# Altium footprint library DcsLib.PcbLib: 31 footprints (part 2 of 2)
Each footprint in its own frame and in the unit in brackets; x right, y up, seen from the top. Pads: shape width x height; smd on the part's side, far side on the other; paste and mask are expansions set on the pad; w line width, h text height; cw(c..) or ccw(c..) is an arc to the next point about the centre after c.
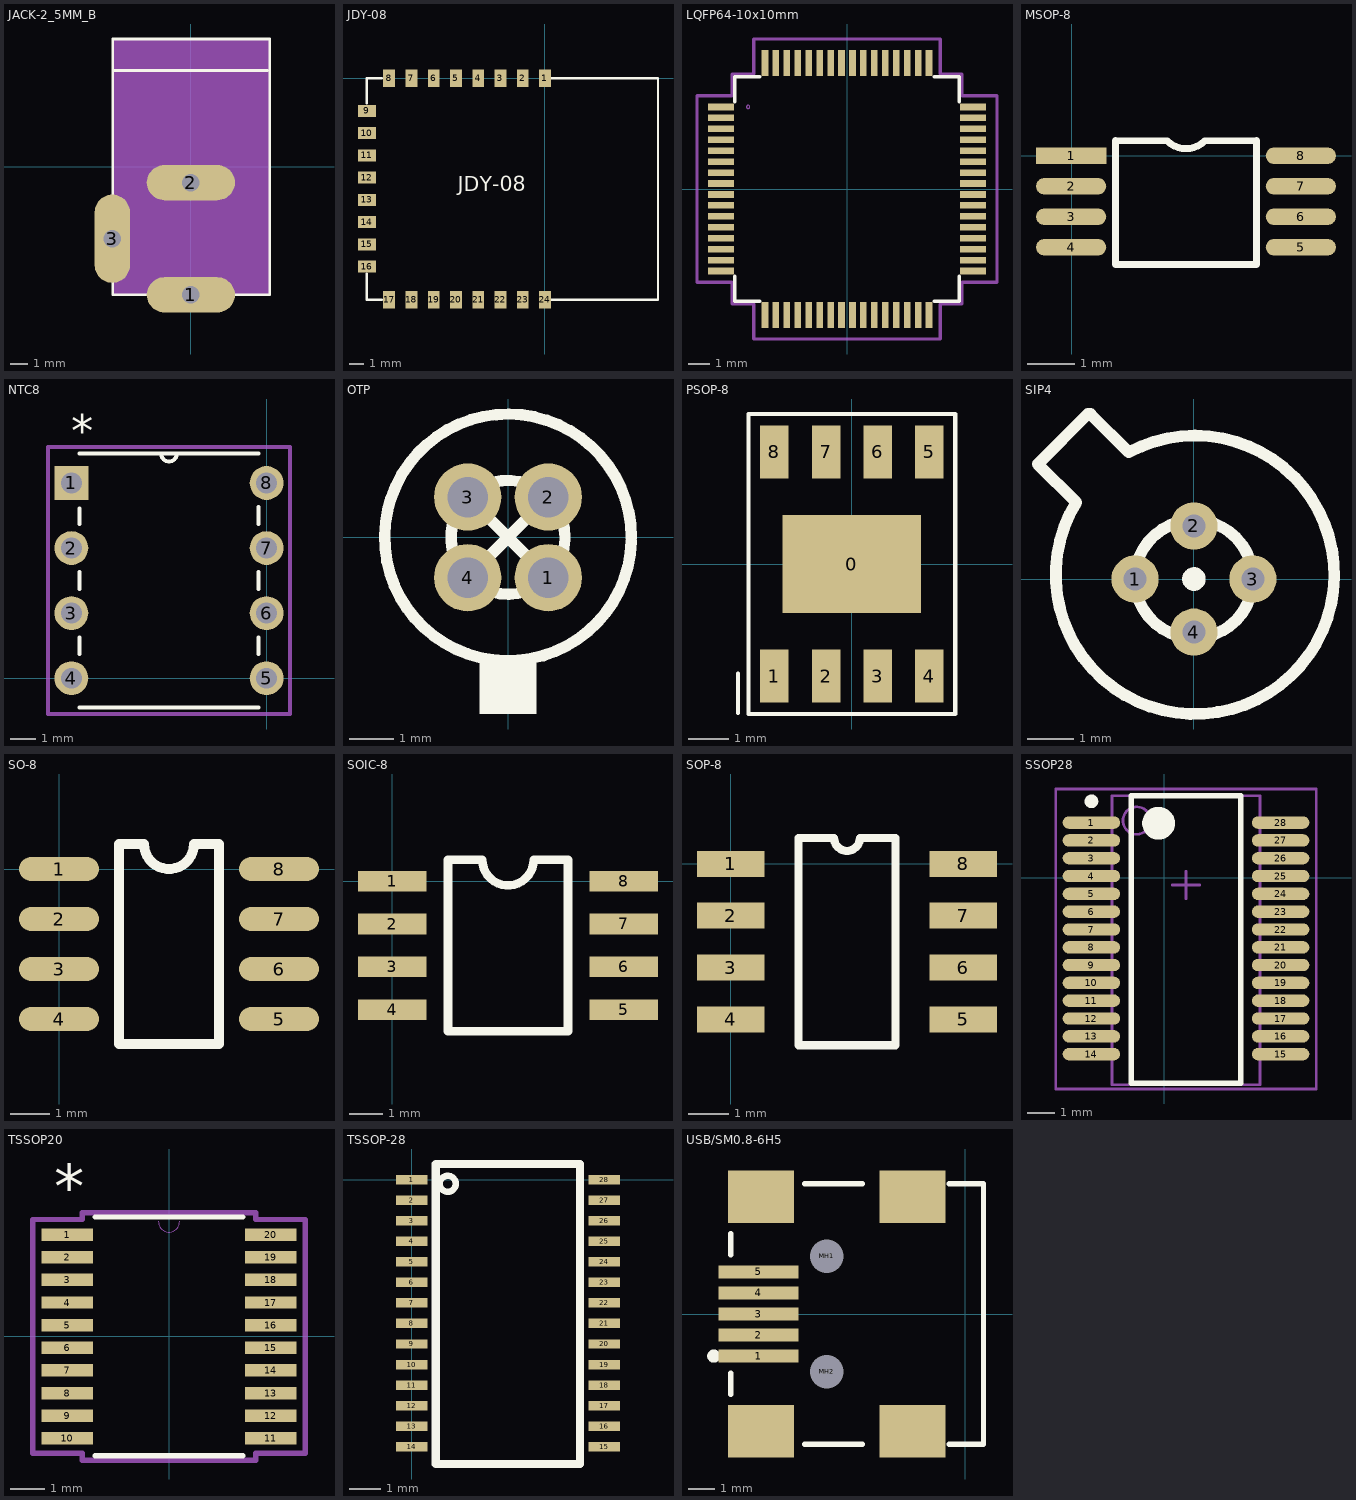
[diagram p1: the footprints below, top view; thin cyan lines are the x and y axes]

## JACK-2_5MM_B [mm] "JACK-2_5MM_B"
pads (3):
  oval 5x2 / inner round 1.524 / far side oval 5x2 hole 1: 1(0,-7.239) 2(0,-0.889)
  oval 2x5 / inner round 1.524 / far side oval 2x5 hole 1: 3(-4.445,-4.064)
Top Overlay:
  lines w0.152: -4.318,5.461 4.318,5.461 ; -4.42,-7.239 4.47,-7.239 4.47,7.239 -4.42,7.239 -4.42,-7.239
Mechanical 9:
  text "2" at -0.254,-0.889 h0.64
  text "3" at -4.699,-4.064 h0.64
  text "1" at -0.254,-7.239 h0.64
Mechanical 10:
  region: -4.445,0.254 -4.445,-7.239 2.54,-7.239 4.445,-7.239 4.445,7.239 -4.445,7.239

## JDY-08 [mm]
pads (24):
  rect 0.8x1.2 smd: 1(0,0) 2(-1.5,0) 3(-3,0) 4(-4.5,0) 5(-6,0) 6(-7.5,0) 7(-9,0) 8(-10.5,0) 17(-10.5,-14.935) 18(-9,-14.935) 19(-7.5,-14.935) 20(-6,-14.935) 21(-4.5,-14.935) 22(-3,-14.935) 23(-1.5,-14.935) 24(0,-14.935)
  rect 1.2x0.8 smd: 9(-12,-2.202) 10(-12,-3.702) 11(-12,-5.202) 12(-12,-6.702) 13(-12,-8.202) 14(-12,-9.702) 15(-12,-11.202) 16(-12,-12.702)
Top Overlay:
  lines w0.16: -12,-13.176 -12,-14.935 -10.984,-14.935 ; -12,-1.702 -12,0 -10.984,0 ; 0.465,-14.935 1.188,-14.935 7.615,-14.935 7.615,-1.905 7.615,0 2.56,0 0.465,0
  text "JDY-08" at -5.869,-7.604 h1

## LQFP64-10x10mm [mil]
pads (64):
  rect 47x12 smd: 1(-226.38,147.64) 2(-226.38,127.95) 3(-226.38,108.27) 4(-226.38,88.58) 5(-226.38,68.9) 6(-226.38,49.21) 7(-226.38,29.53) 8(-226.38,9.84) 9(-226.38,-9.84) 10(-226.38,-29.53) 11(-226.38,-49.21) 12(-226.38,-68.9) 13(-226.38,-88.58) 14(-226.38,-108.27) 15(-226.38,-127.95) 16(-226.38,-147.64) 33(226.38,-147.64) 34(226.38,-127.95) 35(226.38,-108.27) 36(226.38,-88.58) 37(226.38,-68.9) 38(226.38,-49.21) 39(226.38,-29.53) 40(226.38,-9.84) 41(226.38,9.84) 42(226.38,29.53) 43(226.38,49.21) 44(226.38,68.9) 45(226.38,88.58) 46(226.38,108.27) 47(226.38,127.95) 48(226.38,147.64)
  rect 12x47 smd: 17(-147.64,-226.38) 18(-127.95,-226.38) 19(-108.27,-226.38) 20(-88.58,-226.38) 21(-68.9,-226.38) 22(-49.21,-226.38) 23(-29.53,-226.38) 24(-9.84,-226.38) 25(9.84,-226.38) 26(29.53,-226.38) 27(49.21,-226.38) 28(68.9,-226.38) 29(88.58,-226.38) 30(108.27,-226.38) 31(127.95,-226.38) 32(147.64,-226.38) 49(147.64,226.38) 50(127.95,226.38) 51(108.27,226.38) 52(88.58,226.38) 53(68.9,226.38) 54(49.21,226.38) 55(29.53,226.38) 56(9.84,226.38) 57(-9.84,226.38) 58(-29.53,226.38) 59(-49.21,226.38) 60(-68.9,226.38) 61(-88.58,226.38) 62(-108.27,226.38) 63(-127.95,226.38) 64(-147.64,226.38)
Top Overlay:
  lines w6: -202,-156.51 -202,-202 -156.51,-202 ; -202,156.51 -202,202 -156.51,202 ; 156.51,-202 202,-202 202,-156.51 ; 156.51,202 202,202 202,156.51
Mechanical 13:
  circle w0: c-177.88,147.64 r3
Mechanical 15:
  lines w6: -269.88,-167.64 -207,-167.64 -207,-207 -167.64,-207 -167.64,-269.88 167.64,-269.88 167.64,-207 207,-207 207,-167.64 269.88,-167.64 269.88,167.64 207,167.64 207,207 167.64,207 167.64,269.88 -167.64,269.88 -167.64,207 -207,207 -207,167.64 -269.88,167.64 -269.88,-167.64
3D body "LQFP64-10x10mm.stp": height 63.1, standoff 0, extent -236.1,-236.1 236.1,236.1

## MSOP-8 [mm]
pads (8):
  rect 1.5x0.35 smd: 1(-0.01,0)
  oval 1.5x0.35 smd: 2(-0.01,-0.65) 3(-0.01,-1.3) 4(-0.01,-1.95) 5(4.89,-1.95) 6(4.89,-1.3) 7(4.89,-0.65) 8(4.89,0)
Top Overlay:
  lines w0.15: 0.94,0.32 0.94,-2.32 3.94,-2.32 3.94,0.322 2.84,0.32 ; 0.94,0.322 2.03,0.32 ; 2.04,0.318 ccw(c2.44,0.717) 2.84,0.318

## NTC8 [mil]
pads (8):
  rect 52x52 / inner round 60 / far side rect 52x52 hole 32: 1(-300,300)
  round 52 / inner round 60 / far side round 52 hole 32: 2(-300,200) 3(-300,100) 4(-300,0) 5(0,0) 6(0,100) 7(0,200) 8(0,300)
Top Overlay:
  lines w6: -287.5,-45 -12.5,-45 ; -287.5,37.05 -287.5,62.95 ; -287.5,137.05 -287.5,162.95 ; -287.5,237.05 -287.5,260.9 ; -287.5,345 -12.5,345 ; -162,345 ccw(c-150,345) -138,345 ; -12.5,37.05 -12.5,62.95 ; -12.5,137.05 -12.5,162.95 ; -12.5,237.05 -12.5,262.95
  text "*" at -300,356 h50
Mechanical 13:
  lines w0: -162,345 ccw(c-150,345) -138,345
  text "*" at -300,356 h50
Mechanical 15:
  lines w6: -336,-55 36,-55 36,355 -336,355 -336,-55
3D body "NTC8.stp": height 265.1, standoff 0, extent -315,-45 5,345

## OTP [mm]
pads (4):
  round 1.5 hole 0.9: 1(0.898,-0.898) 2(0.898,0.898) 3(-0.898,0.898) 4(-0.898,-0.898)
Top Overlay:
  rectangle: -0.635,-3.937 0.635,-2.667
  lines w0.254: -0.898,-0.898 0.898,0.898 ; -0.898,0.898 0.898,-0.898 ; 1.269,-0.038 cw(c0,0) 1.27,0 ; 2.749,-0.083 cw(c0,0) 2.75,0

## PSOP-8 [mm]
pads (9):
  rect 3.4x2.4 smd: 0(0,0)
  rect 0.7x1.3 smd: 1(-1.905,-2.75) 2(-0.635,-2.75) 3(0.635,-2.75) 4(1.905,-2.75) 5(1.905,2.75) 6(0.635,2.75) 7(-0.635,2.75) 8(-1.905,2.75)
Top Overlay:
  lines w0.102: -2.794,-3.658 -2.794,-2.692 ; -2.54,-3.683 -2.54,3.683 2.54,3.683 2.54,-3.683 -2.54,-3.683

## SIP4 [mil]
pads (4):
  round 40 hole 19.68: 1(-50,0) 2(0,45) 3(50,0) 4(0,-45)
Top Overlay:
  circle w10: c0,0 r5
  circle w10: c0,0 r50
  lines w10: -132.5,97.5 -100,65 ccw(c0.89,3.59) -55.27,107.49 -87.78,140 -90,140 -132.5,97.5

## SO-8 [mil]
pads (8):
  oval 80x24 smd: 1(0,0) 2(0,-50) 3(0,-100) 4(0,-150) 5(220,-150) 6(220,-100) 7(220,-50) 8(220,0)
Top Overlay:
  lines w10: 60,-175 60,25 85,25 ccw(c110,25) 135,25 160,25 160,-175 60,-175

## SOIC-8 [mil]
pads (8):
  rect 80x24 smd: 1(0,0) 2(0,-50.06) 3(0,-100.06) 4(0,-150.06) 5(270,-150) 6(270,-100) 7(270,-50) 8(270,0)
Top Overlay:
  lines w10: 75,24.94 75.06,25 105,25 ccw(c135,25) 165,25 204.94,25 205,24.94 205,-175.06 65,-175.06 65,24.94 95,24.94

## SOP-8 [mil]
pads (8):
  rect 65x25 smd: 1(0,0) 2(0,-50) 3(0,-100) 4(0,-150) 5(224.41,-150) 6(224.41,-100) 7(224.41,-50) 8(224.41,0)
Top Overlay:
  lines w7.87: 65.37,-175 159.04,-175 159.04,25 124.7,25 cw(c112.2,25) 99.7,25 65.37,25 65.37,-175

## SSOP28 [mm] "SOP, 16-Leads, Body 6.2x5.3mm, Pitch 0.65mm, IPC Medium Density"
height 2
pads (28):
  oval 2.1x0.45 smd: 1(-2.663,2.021) 2(-2.663,1.371) 3(-2.663,0.721) 4(-2.663,0.071) 5(-2.663,-0.579) 6(-2.663,-1.229) 7(-2.663,-1.879) 8(-2.663,-2.529) 9(-2.663,-3.176) 10(-2.663,-3.826) 11(-2.663,-4.476) 12(-2.663,-5.126) 13(-2.663,-5.776) 14(-2.663,-6.426) 15(4.237,-6.426) 16(4.237,-5.776) 17(4.237,-5.126) 18(4.237,-4.476) 19(4.237,-3.826) 20(4.237,-3.176) 21(4.237,-2.529) 22(4.237,-1.879) 23(4.237,-1.229) 24(4.237,-0.579) 25(4.237,0.071) 26(4.237,0.721) 27(4.237,1.371) 28(4.237,2.021)
Top Overlay:
  circle w0.25: c-2.663,2.796 r0.125
  circle w0.6: c-0.213,1.996 r0.3
  lines w0.2: -1.213,-7.493 -1.213,2.996 2.787,2.996 2.787,-7.493 -1.213,-7.493
Mechanical 13:
  circle w0.1: c-1.013,2.096 r0.5
  lines w0.1: -1.913,-7.544 -1.913,2.996 3.487,2.996 3.487,-7.544 -1.913,-7.544
Mechanical 15:
  lines w0.1: 0.287,-0.254 1.287,-0.254 ; 0.787,-0.754 0.787,0.246 ; -3.963,-7.696 -3.963,3.246 5.537,3.246 5.537,-7.696 -3.963,-7.696
3D body: height 2, standoff 0, extent -1.913,-7.544 3.487,2.996

## TSSOP20 [mil]
pads (20):
  rect 58x14 smd: 1(-115,115.16) 2(-115,89.57) 3(-115,63.98) 4(-115,38.39) 5(-115,12.8) 6(-115,-12.8) 7(-115,-38.39) 8(-115,-63.98) 9(-115,-89.57) 10(-115,-115.16) 11(115,-115.16) 12(115,-89.57) 13(115,-63.98) 14(115,-38.39) 15(115,-12.8) 16(115,12.8) 17(115,38.39) 18(115,63.98) 19(115,89.57) 20(115,115.16)
Top Overlay:
  lines w6: -83.42,-135 83.42,-135 ; -83.42,135 83.42,135
  text "*" at -130,145 h50
Mechanical 13:
  lines w0: -12,130 ccw(c0,130) 12,130
Mechanical 15:
  lines w6: -154,-132.16 -98,-132.16 -98,-140 98,-140 98,-132.16 154,-132.16 154,132.16 98,132.16 98,140 -98,140 -98,132.16 -154,132.16 -154,-132.16
Multi-Layer:
  text "Copyright (C) 2016 Accelerated Designs. All rights reserved" at 0,0 h1
3D body "TSSOP20.stp": height 47.1, standoff 0, extent -130,-130 130,130

## TSSOP-28 [mm]
pads (28):
  rect 1x0.3 smd: 1(0,0) 2(0,-0.65) 3(0,-1.3) 4(0,-1.95) 5(0,-2.6) 6(0,-3.25) 7(0,-3.9) 8(0,-4.55) 9(0,-5.2) 10(0,-5.85) 11(0,-6.5) 12(0,-7.15) 13(0,-7.8) 14(0,-8.45) 15(6.1,-8.45) 16(6.1,-7.8) 17(6.1,-7.15) 18(6.1,-6.5) 19(6.1,-5.85) 20(6.1,-5.2) 21(6.1,-4.55) 22(6.1,-3.9) 23(6.1,-3.25) 24(6.1,-2.6) 25(6.1,-1.95) 26(6.1,-1.3) 27(6.1,-0.65) 28(6.1,0)
Top Overlay:
  circle w0.203: c1.143,-0.127 r0.254
  lines w0.254: 0.762,-9 0.762,0.5 5.334,0.5 5.334,-9 0.762,-9

## USB/SM0.8-6H5 [mm]
pads (11):
  rect 3.048x0.5 smd: 1(-7.85,-1.6) 2(-7.85,-0.8) 3(-7.85,0) 4(-7.85,0.8) 5(-7.85,1.6)
  round 0.6 hole 1.27 unplated: MH1(-5.25,2.2) MH2(-5.25,-2.2)
  rect 2.5x2 smd: ""(-7.75,-4.45) ""(-7.75,4.45) ""(-1.996,-4.45) ""(-1.996,4.45)
Top Overlay:
  circle w0.25: c-9.55,-1.6 r0.125
  lines w0.2: -8.9,-3.05 -8.9,-2.25 ; -8.9,2.25 -8.9,3.05 ; -6.1,-4.95 -3.9,-4.95 ; -6.1,4.95 -3.9,4.95 ; -0.6,-4.95 0.7,-4.95 0.7,4.95 -0.6,4.95